# EAGLE library part XFMR_18046 (library wheat)
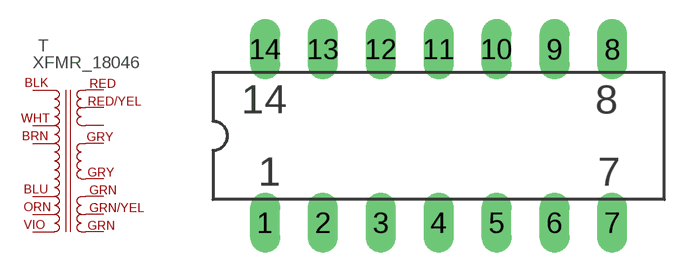
[diagram p153: symbol with the pads of DIP14; footprint DIP14]

Designator prefix T

## XFMR_18046  [DIP14]
1  P1  pas
2  P2  pas
3  P3  pas
4  P4  pas
5  P5  pas
6  P6  pas
7  S1  pas
8  S2  pas
9  S3  pas
10  S4  pas
11  S5  pas
12  S6  pas
13  S11  pas
14  S12  pas

## Footprint DIP14 (pad centres in mm)
drill 0.813 long: 1 0,0; 2 2.54,0; 3 5.08,0; 4 7.62,0; 5 10.16,0; 6 12.7,0; 7 15.24,0; 8 15.24,7.62; 9 12.7,7.62; 10 10.16,7.62; 11 7.62,7.62; 12 5.08,7.62; 13 2.54,7.62; 14 0,7.62